# EAGLE library part BCN164AB (library passive)
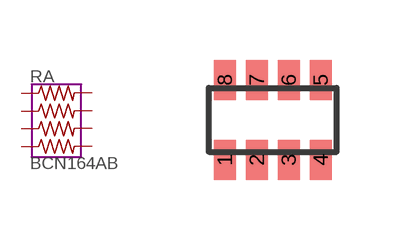
[diagram p0: symbol with the pads of BCN164AB; footprint BCN164AB]

Designator prefix RA

## BCN164AB  [BCN164AB]
1  1  pas
2  2  pas
3  3  pas
4  4  pas
5  5  pas
6  6  pas
7  7  pas
8  8  pas

## Footprint BCN164AB (pad centres in mm)
smd 0.55 x 1: 1 -1.2,-1; 2 -0.4,-1; 3 0.4,-1; 4 1.2,-1; 5 1.2,1; 6 0.4,1; 7 -0.4,1; 8 -1.2,1